# EAGLE library part MIC5387 (library microbuilder)
MIC5387 - Triple Output Linear LDO Regulator 150ma Output on each LDO, 180mV Vf, 2.5-5.5V Input 3.3V, 1.8V, 1.2V - Digikey: 576-3689-1-ND
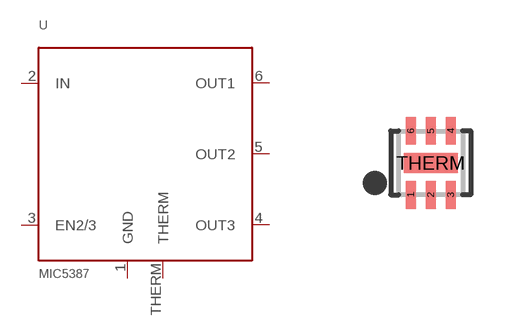
[diagram p75: symbol with the pads of TMLF-6; footprint TMLF-6]

Designator prefix U

## MIC5387  [TMLF-6]
1  GND
2  IN
3  EN2/3
4  OUT3
5  OUT2
6  OUT1
THERM  THERM

## Footprint TMLF-6 (pad centres in mm)
6-Pin 1.6mm x 1.6mm Thin MLF Source: http://www.micrel.com/_PDF/mic5387.pdf
smd 0.25 x 0.7: 1 -0.5,-0.8; 2 0,-0.8; 3 0.5,-0.8; 4 0.5,0.8; 5 0,0.8; 6 -0.5,0.8
smd 1.35 x 0.5: THERM 0,0